# Altium footprint library jack_trs.PcbLib: 7 footprints
Each footprint in its own frame and in the unit in brackets; x right, y up, seen from the top. Pads: shape width x height; smd on the part's side, far side on the other; paste and mask are expansions set on the pad; w line width, h text height; cw(c..) or ccw(c..) is an arc to the next point about the centre after c.
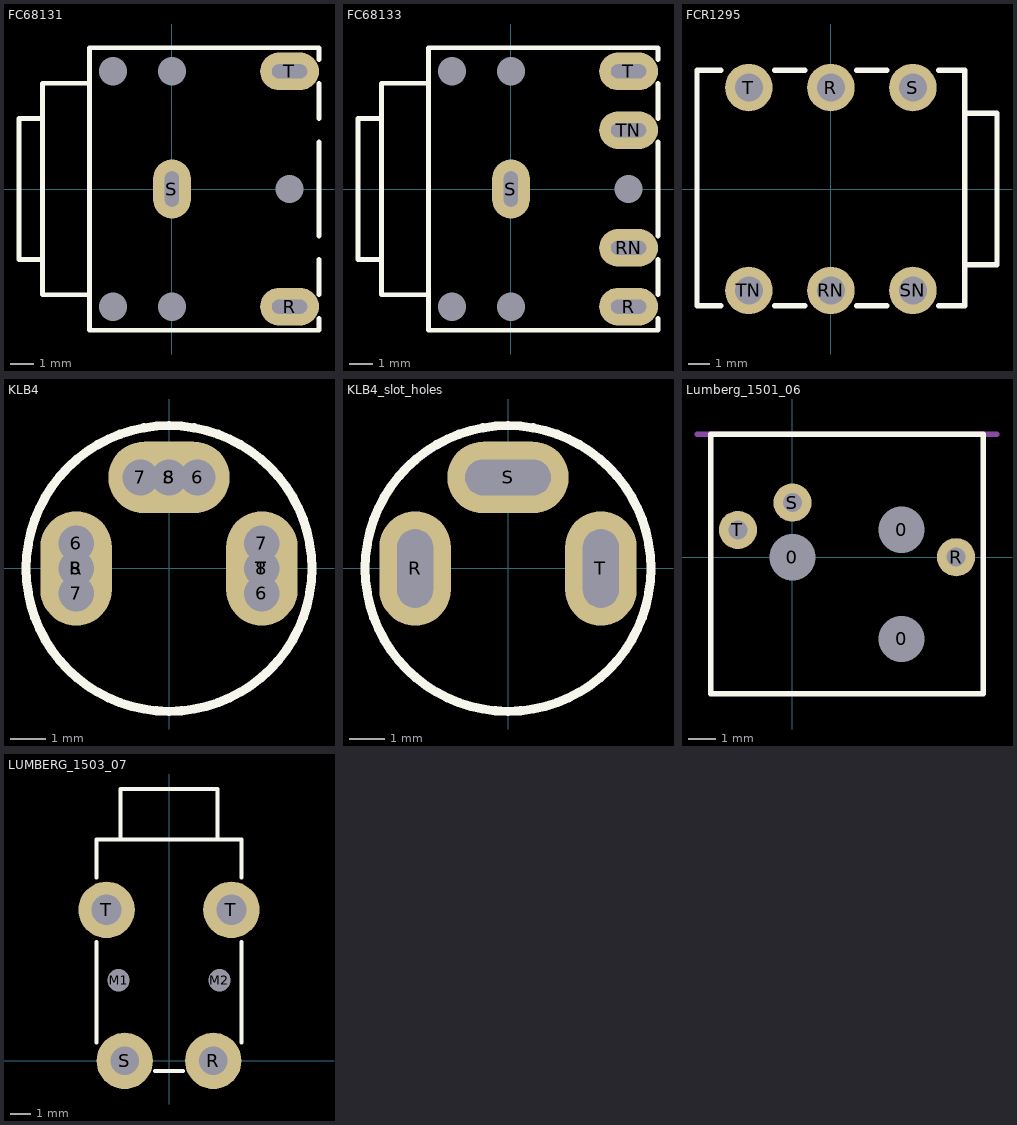
[diagram p0: the footprints below, top view; thin cyan lines are the x and y axes]

## FC68131 [mm] "Jack 3,5mm Connector, Stereo"
height 6
pads (8):
  round 0 hole 1.2: " Mech2"(0,5) Mech1(-2.5,5) Mech3(-2.5,-5) Mech4(0,-5) Mech5(5,0)
  oval 2.5x1.6 hole 0.6 slot 1.5 at 0 deg: R(5,-5) T(5,5)
  oval 1.6x2.5 hole 0.6 slot 1.5 at 90 deg: S(0,0)
Top Overlay:
  lines w0.2: -3.5,-4.5 -5.5,-4.5 -5.5,-3 ; -3.5,4.5 -5.5,4.5 -5.5,3 ; 6.25,-5.5 6.25,-6 -3.5,-6 -3.5,6 6.25,6 6.25,5.5 ; 6.25,-4.5 6.25,-3 ; 6.25,-2 6.25,2 ; 6.25,3 6.25,4.5 ; -5.5,-3 -5.5,3 ; -5.5,-3 -6.5,-3 -6.5,3 -5.5,3

## FC68133 [mm] "Jack 3,5mm Connector, Stereo with on/off switch"
height 6
pads (10):
  round 0 hole 1.2: Mech1(-2.5,5) Mech2(0,5) Mech3(-2.5,-5) Mech4(0,-5) Mech5(5,0)
  oval 2.5x1.6 hole 0.6 slot 1.5 at 0 deg: R(5,-5) RN(5,-2.5) T(5,5) TN(5,2.5)
  oval 1.6x2.5 hole 0.6 slot 1.5 at 90 deg: S(0,0)
Top Overlay:
  lines w0.2: -3.5,-4.5 -5.5,-4.5 -5.5,-3 ; -3.5,4.5 -5.5,4.5 -5.5,3 ; 6.25,-5.5 6.25,-6 -3.5,-6 -3.5,6 6.25,6 6.25,5.5 ; 6.25,-4.5 6.25,-3 ; 6.25,-2 6.25,2 ; 6.25,3 6.25,4.5 ; -5.5,-3 -6.5,-3 -6.5,3 -5.5,3 ; -5.5,-3 -5.5,3

## FCR1295 [mm] "Jack 3,5mm Connector, Stereo with on/off switch"
height 8.3
pads (6):
  round 2.2 hole 1.3: R(0,4.7) RN(0,-4.7) S(3.8,4.7) SN(3.8,-4.7) T(-3.8,4.7) TN(-3.8,-4.7)
Top Overlay:
  lines w0.254: -5.1,-5.4 -6.2,-5.4 -6.2,5.5 -5.1,5.5 ; -2.6,-5.4 -1.2,-5.4 ; -2.6,5.5 -1.2,5.5 ; 1.2,-5.4 2.6,-5.4 ; 1.2,5.5 2.6,5.5 ; 5,-5.4 6.2,-5.4 6.2,5.5 5,5.5 ; 6.2,3.5 7.7,3.5 7.7,-3.5 6.3,-3.5
Mechanical 1:
  lines w0.1: 6.2,-3.7 6.2,3.7
  text "PCB Edge" at 6.025,-3.525 h0.8

## KLB4 [mm] "Lumberg KLB4 Jack TRS Connector"
pads (12):
  round 1 hole 1: 6(-2.6,0.7) 6(0.8,2.55) 6(2.6,-0.7) 7(-2.6,-0.7) 7(-0.8,2.55) 7(2.6,0.7) 8(-2.6,0) 8(0,2.55) 8(2.6,0)
  oval 2x3.2 all layers, no hole: R(-2.6,0) T(2.6,0)
  oval 3.4x2 all layers, no hole: S(0,2.55)
Top Overlay:
  circle w0.254: c0,0 r4
3D body "lumberg_klb4_new.STEP": height 16.3, standoff -6.4, extent -4,-4 4,4

## KLB4_slot_holes [mm] "Lumberg KLB4 Jack TRS Connector"
pads (3):
  oval 2x3.2 hole 1 slot 2.2 at 90 deg: R(-2.6,0) T(2.6,0)
  oval 3.4x2 hole 1 slot 2.4 at 0 deg: S(0,2.55)
Top Overlay:
  circle w0.254: c0,0 r4
3D body "lumberg_klb4_new.STEP": height 16.3, standoff -6.4, extent -4,-4 4,4

## Lumberg_1501_06 [mm] "Lumberg 1501 06 2.5mm jack socket"
pads (6):
  round 1.6 hole 1.7: 0(0,0) 0(4,-3) 0(4,1)
  round 1.4 hole 0.7: R(6,0) S(0,2) T(-2,1)
Top Overlay:
  lines w0.2: -3,-5 -3,4.5 7,4.5 7,-5 -3,-5
Mechanical 1:
  lines w0.2: -3.5,4.5 7.5,4.5
  text "^BOARD EDGE^" at -2,3.5 h0.7
3D body "User Library-Lumberg 1501 06 2_5mm jack socket.step": height 4.5, standoff -2.7, extent -2.999,-5 7.001,7

## LUMBERG_1503_07 [mm]
pads (6):
  round 1 hole 1.1: M1(-2.5,4) M2(2.5,4)
  round 2.8 hole 1.4: R(2.2,0) S(-2.2,0)
  round 2.8 hole 1.5: T(-3.1,7.5) T(3.1,7.5)
Top Overlay:
  lines w0.2: -3.6,0.9 -3.6,5.9 ; -3.6,9.1 -3.6,11 3.6,11 3.6,9.1 ; -2.4,11 -2.4,13.5 2.4,13.5 2.4,11 ; -0.7,-0.5 0.7,-0.5 ; 3.6,0.9 3.6,5.9
3D body "Lumberg_1503_07.stp": height 5.05, standoff -2.5, extent -3.624,-0.5 3.624,13.5